# EAGLE library part BU2507_DAC (library jason_eagle6)
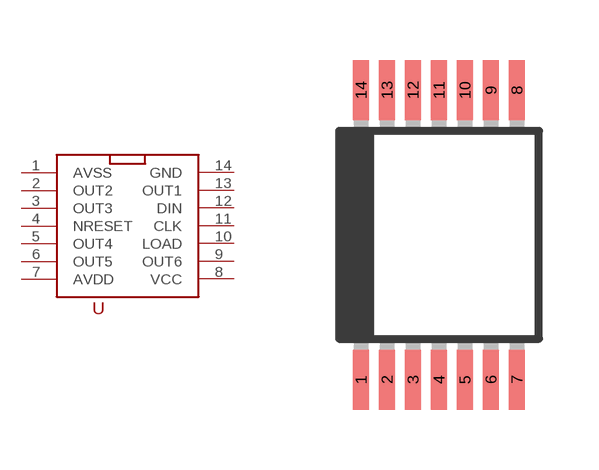
[diagram p73: symbol with the pads of SSOP14; footprint SSOP14]

Designator prefix -

## BU2507_DAC  [SSOP14]
1  AVSS  pwr
2  OUT2
3  OUT3
4  NRESET
5  OUT4
6  OUT5
7  AVDD  pwr
8  VCC  pwr
9  OUT6
10  LOAD
11  CLK
12  DIN
13  OUT1
14  GND  pwr

## Footprint SSOP14 (pad centres in mm)
Shrink Small Outline Package package type SS
smd 0.4 x 1.5: 1 -1.95,-3.625; 2 -1.3,-3.625; 3 -0.65,-3.625; 4 0,-3.625; 5 0.65,-3.625; 6 1.3,-3.625; 7 1.95,-3.625; 8 1.95,3.625; 9 1.3,3.625; 10 0.65,3.625; 11 0,3.625; 12 -0.65,3.625; 13 -1.3,3.625; 14 -1.95,3.625